# Altium footprint library Capacitors THD.PcbLib: 270 footprints (part 10 of 17)
Each footprint in its own frame and in the unit in brackets; x right, y up, seen from the top. Pads: shape width x height; smd on the part's side, far side on the other; paste and mask are expansions set on the pad; w line width, h text height; cw(c..) or ccw(c..) is an arc to the next point about the centre after c.
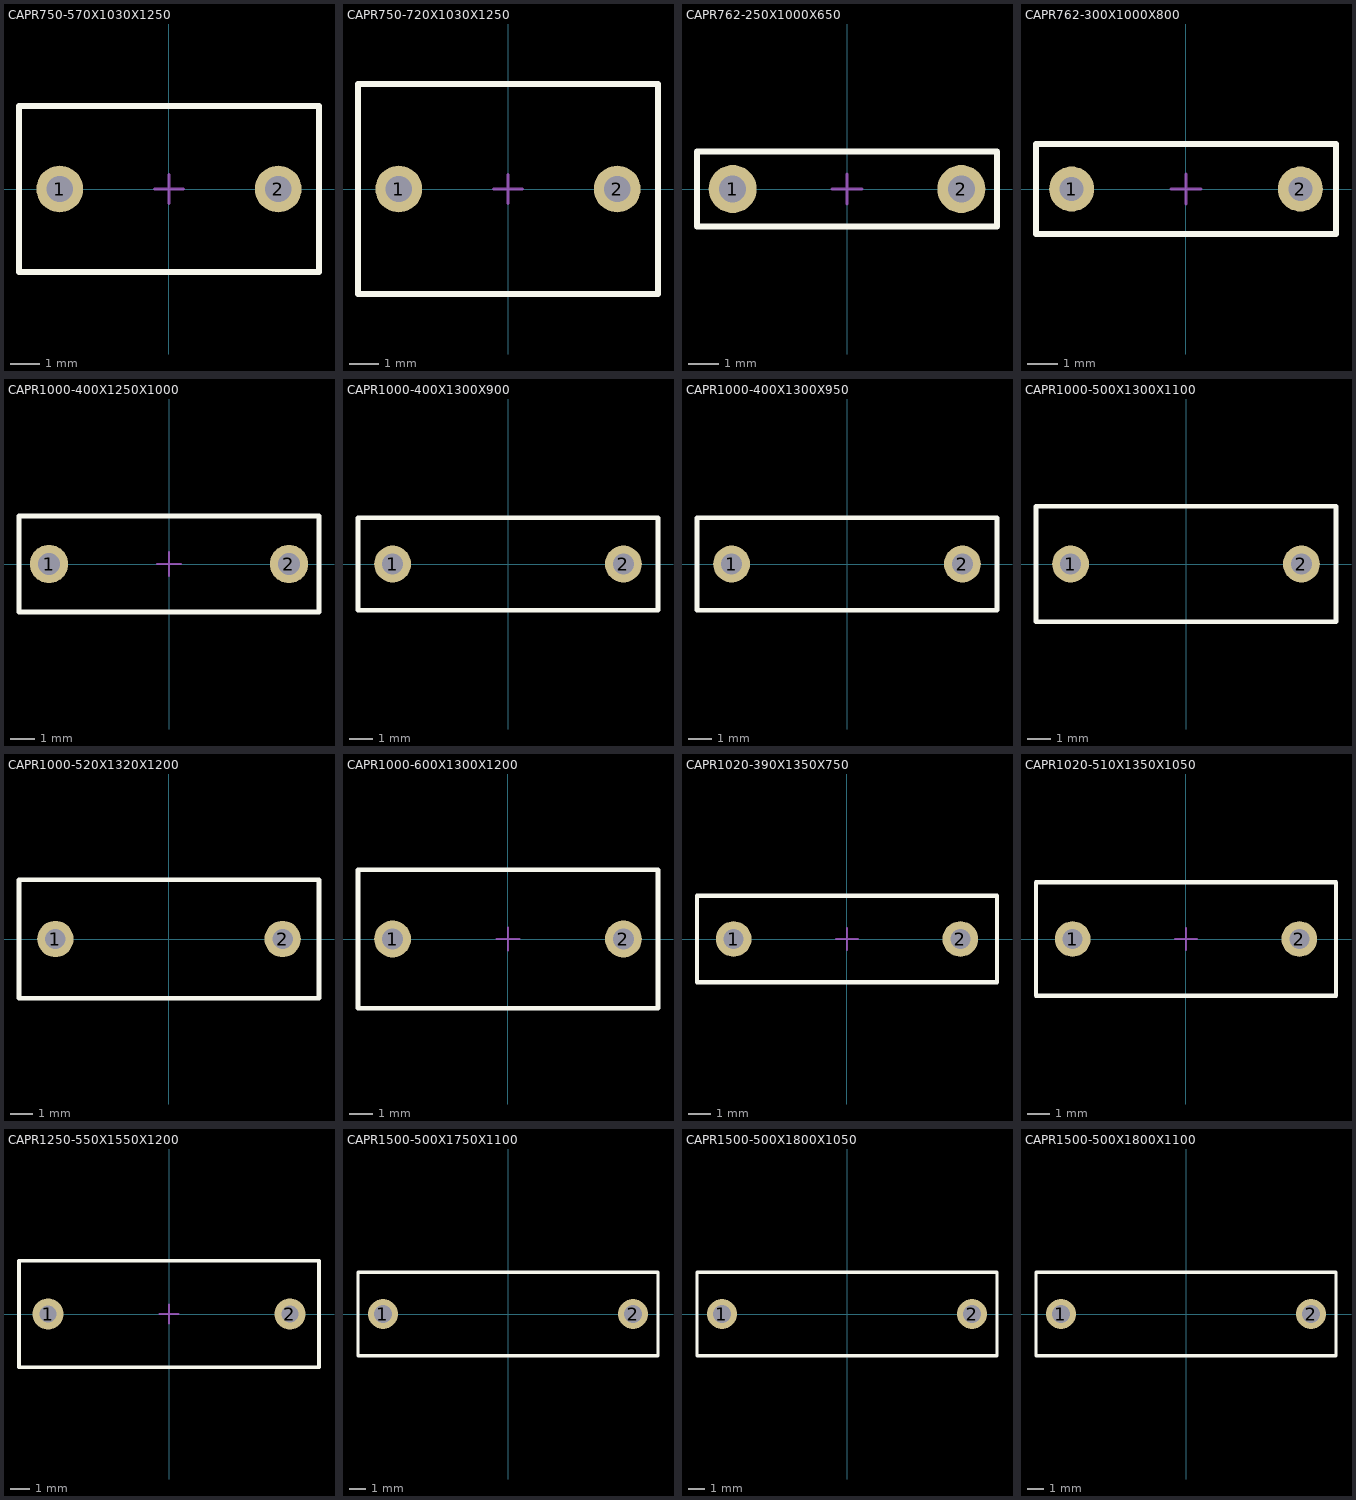
[diagram p9: the footprints below, top view; thin cyan lines are the x and y axes]

## CAPR750-570X1030X1250 [mm] "Capacitor Radial, Pin spacing 7.5mm - Body With 5.7mm X Body Length 10.3mm X Body Height 12.5mm"
height 12.5
pads (2):
  round 1.6 hole 0.9: 1(-3.75,0) 2(3.75,0)
Top Overlay:
  lines w0.2: -5.15,-2.85 5.15,-2.85 5.15,2.85 -5.15,2.85 -5.15,-2.85
Mechanical 8:
  lines w0.1: -4.25,0 -3.75,0 ; -3.75,-0.5 -3.75,0 ; -3.75,0.5 -3.75,0 ; -3.25,0 -3.75,0 ; -0.5,0 0,0 ; 0,-0.5 0,0 ; 0,0.5 0,0 ; 0.5,0 0,0 ; 3.25,0 3.75,0 ; 3.75,-0.5 3.75,0 ; 3.75,0.5 3.75,0 ; 4.25,0 3.75,0
Mechanical 14:
  lines w0.1: -5.15,-2.85 5.15,-2.85 5.15,2.85 -5.15,2.85 -5.15,-2.85
3D body "CAPR750-570X1030X1250.stp": height 12.5, standoff -3.8, extent -5.15,-2.85 5.15,2.85

## CAPR750-720X1030X1250 [mm] "Capacitor Radial, Pin spacing 7.5mm - Body With 7.2mm X Body Length 10.3mm X Body Height 12.5mm"
height 12.5
pads (2):
  round 1.6 hole 0.9: 1(-3.75,0) 2(3.75,0)
Top Overlay:
  lines w0.2: -5.15,-3.6 5.15,-3.6 5.15,3.6 -5.15,3.6 -5.15,-3.6
Mechanical 8:
  lines w0.1: -4.25,0 -3.75,0 ; -3.75,-0.5 -3.75,0 ; -3.75,0.5 -3.75,0 ; -3.25,0 -3.75,0 ; -0.5,0 0,0 ; 0,-0.5 0,0 ; 0,0.5 0,0 ; 0.5,0 0,0 ; 3.25,0 3.75,0 ; 3.75,-0.5 3.75,0 ; 3.75,0.5 3.75,0 ; 4.25,0 3.75,0
Mechanical 14:
  lines w0.1: -5.15,-3.6 5.15,-3.6 5.15,3.6 -5.15,3.6 -5.15,-3.6
3D body "CAPR750-720X1030X1250.stp": height 12.5, standoff -3.8, extent -5.15,-3.6 5.15,3.6

## CAPR762-250X1000X650 [mm] "Capacitor Radial, Pin spacing 7.62mm - Body With 2.5mm X Body Length 10mm X Body Height 6.5mm"
height 9
pads (2):
  round 1.6 hole 0.9: 1(-3.81,0) 2(3.81,0)
Top Overlay:
  lines w0.2: -5,-1.25 -5,1.25 5,1.25 5,-1.25 -5,-1.25
Mechanical 8:
  lines w0.1: -4.31,0 -3.81,0 ; -3.81,-0.5 -3.81,0 ; -3.81,0.5 -3.81,0 ; -3.31,0 -3.81,0 ; -0.5,0 0,0 ; 0,-0.5 0,0 ; 0,0.5 0,0 ; 0.5,0 0,0 ; 3.31,0 3.81,0 ; 3.81,-0.5 3.81,0 ; 3.81,0.5 3.81,0 ; 4.31,0 3.81,0
Mechanical 14:
  lines w0.1: -5,-1.25 -5,1.25 5,1.25 5,-1.25 -5,-1.25
3D body "CAPR762-250X1000X650.stp": height 6.5, standoff -3.8, extent -5,-1.25 5,1.25

## CAPR762-300X1000X800 [mm] "Capacitor Radial, Pin spacing 7.62mm - Body With 3mm X Body Length 10mm X Body Height 8mm"
height 9
pads (2):
  round 1.5 hole 0.8: 1(-3.81,0) 2(3.81,0)
Top Overlay:
  lines w0.2: -5,-1.5 -5,1.5 5,1.5 5,-1.5 -5,-1.5
Mechanical 8:
  lines w0.1: -4.31,0 -3.81,0 ; -3.81,-0.5 -3.81,0 ; -3.81,0.5 -3.81,0 ; -3.31,0 -3.81,0 ; -0.5,0 0,0 ; 0,-0.5 0,0 ; 0,0.5 0,0 ; 0.5,0 0,0 ; 3.31,0 3.81,0 ; 3.81,-0.5 3.81,0 ; 3.81,0.5 3.81,0 ; 4.31,0 3.81,0
Mechanical 14:
  lines w0.1: -5,-1.5 -5,1.5 5,1.5 5,-1.5 -5,-1.5
3D body "CAPR762-300X1000X800.stp": height 8, standoff -3.8, extent -5,-1.5 5,1.5

## CAPR1000-400X1250X1000 [mm] "Capacitor Radial, Pin spacing 10mm - Body With 4mm X Body Length 12.5mm X Body Height 10mm"
height 10
pads (2):
  round 1.6 hole 0.9: 1(-5,0) 2(5,0)
Top Overlay:
  lines w0.2: -6.25,-2 -6.25,2 6.25,2 6.25,-2 -6.25,-2
Mechanical 8:
  lines w0.1: -5.5,0 -5,0 ; -5,-0.5 -5,0 ; -5,0.5 -5,0 ; -4.5,0 -5,0 ; -0.5,0 0,0 ; 0,-0.5 0,0 ; 0,0.5 0,0 ; 0.5,0 0,0 ; 4.5,0 5,0 ; 5,-0.5 5,0 ; 5,0.5 5,0 ; 5.5,0 5,0
Mechanical 14:
  lines w0.1: -6.25,-2 -6.25,2 6.25,2 6.25,-2 -6.25,-2
3D body "CAPR1000-400X1250X1000.stp": height 10, standoff -3.8, extent -6.25,-2 6.25,2

## CAPR1000-400X1300X900 [mm] "Capacitor Radial, Pin spacing 10mm - Body With 4mm X Body Length 13mm X Body Height 9mm"
height 9
pads (2):
  round 1.6 hole 0.9: 1(-5,0) 2(5,0)
Top Overlay:
  lines w0.2: -6.5,-2 -6.5,2 6.5,2 6.5,-2 -6.5,-2
Mechanical 13:
  lines w0.1: -6.5,-2 6.5,-2 6.5,2 -6.5,2 -6.5,-2
Mechanical 14:
  lines w0.1: -6.5,-2 -6.5,2 6.5,2 6.5,-2 -6.5,-2
3D body "CAPR1000-400X1300X900.stp": height 9, standoff -3.8, extent -6.5,-2 6.5,2

## CAPR1000-400X1300X950 [mm] "Capacitor Radial, Pin spacing 10mm - Body With 4mm X Body Length 13mm X Body Height 9.5mm"
height 9.5
pads (2):
  round 1.6 hole 0.9: 1(-5,0) 2(5,0)
Top Overlay:
  lines w0.2: -6.5,-2 -6.5,2 6.5,2 6.5,-2 -6.5,-2
Mechanical 13:
  lines w0.1: -6.5,-2 6.5,-2 6.5,2 -6.5,2 -6.5,-2
Mechanical 14:
  lines w0.1: -6.5,-2 -6.5,2 6.5,2 6.5,-2 -6.5,-2
3D body "CAPR1000-400X1300X950.stp": height 9.5, standoff -3.8, extent -6.5,-2 6.5,2

## CAPR1000-500X1300X1100 [mm] "Capacitor Radial, Pin spacing 10mm - Body With 5mm X Body Length 13mm X Body Height 11mm"
height 11
pads (2):
  round 1.6 hole 0.9: 1(-5,0) 2(5,0)
Top Overlay:
  lines w0.2: -6.5,-2.5 6.5,-2.5 6.5,2.5 -6.5,2.5 -6.5,-2.5
Mechanical 13:
  lines w0.1: -6.5,-2.5 -6.5,2.5 6.5,2.5 6.5,-2.5 -6.5,-2.5
Mechanical 14:
  lines w0.1: -6.5,-2.5 6.5,-2.5 6.5,2.5 -6.5,2.5 -6.5,-2.5
3D body "CAPR1000-500X1300X1100.stp": height 11, standoff -3.8, extent -6.5,-2.499 6.5,2.501

## CAPR1000-520X1320X1200 [mm] "Capacitor Radial, Pin spacing 10mm - Body With 5mm X Body Length 13mm X Body Height 11mm"
height 12
pads (2):
  round 1.6 hole 0.9: 1(-5,0) 2(5,0)
Top Overlay:
  lines w0.2: -6.6,-2.6 -6.6,2.6 6.6,2.6 6.6,-2.6 -6.6,-2.6
3D body "CAPR1000-520X1320X1200.stp": height 12, standoff -3.8, extent -6.6,-2.6 6.6,2.6

## CAPR1000-600X1300X1200 [mm] "Capacitor Radial, Pin spacing 10mm - Body With 6mm X Body Length 13mm X Body Height 12mm"
height 12
pads (2):
  round 1.6 hole 0.9: 1(-5,0) 2(5,0)
Top Overlay:
  lines w0.2: -6.5,-3 6.5,-3 6.5,3 -6.5,3 -6.5,-3
Mechanical 8:
  lines w0.1: -5.5,0 -5,0 ; -5,-0.5 -5,0 ; -5,0.5 -5,0 ; -4.5,0 -5,0 ; -0.5,0 0,0 ; 0,-0.5 0,0 ; 0,0.5 0,0 ; 0.5,0 0,0 ; 4.5,0 5,0 ; 5,-0.5 5,0 ; 5,0.5 5,0 ; 5.5,0 5,0
Mechanical 14:
  lines w0.1: -6.5,-3 6.5,-3 6.5,3 -6.5,3 -6.5,-3
3D body "CAPR1000-600X1300X1200.stp": height 12, standoff -3.8, extent -6.5,-3 6.5,3

## CAPR1020-390X1350X750 [mm] "Capacitor Radial, Pin spacing 10.2mm - Body With 3.9mm X Body Length 13.5mm X Body Height 7.5mm"
height 7.5
pads (2):
  round 1.6 hole 0.9: 1(-5.1,0) 2(5.1,0)
Top Overlay:
  lines w0.2: -6.75,-1.95 6.75,-1.95 6.75,1.95 -6.75,1.95 -6.75,-1.95
Mechanical 8:
  lines w0.1: -5.6,0 -5.1,0 ; -5.1,-0.5 -5.1,0 ; -5.1,0.5 -5.1,0 ; -4.6,0 -5.1,0 ; -0.5,0 0,0 ; 0,-0.5 0,0 ; 0,0.5 0,0 ; 0.5,0 0,0 ; 4.6,0 5.1,0 ; 5.1,-0.5 5.1,0 ; 5.1,0.5 5.1,0 ; 5.6,0 5.1,0
Mechanical 14:
  lines w0.1: -6.75,-1.95 6.75,-1.95 6.75,1.95 -6.75,1.95 -6.75,-1.95
3D body "CAPR1020-390X1350X750.stp": height 7.5, standoff -3.8, extent -6.75,-1.95 6.75,1.95

## CAPR1020-510X1350X1050 [mm] "Capacitor Radial, Pin spacing 10.2mm - Body With 5.1mm X Body Length 13.5mm X Body Height 10.5mm"
height 10.5
pads (2):
  round 1.6 hole 0.9: 1(-5.1,0) 2(5.1,0)
Top Overlay:
  lines w0.2: -6.75,-2.55 -6.75,2.55 6.75,2.55 6.75,-2.55 -6.75,-2.55
Mechanical 8:
  lines w0.1: -5.6,0 -5.1,0 ; -5.1,-0.5 -5.1,0 ; -5.1,0.5 -5.1,0 ; -4.6,0 -5.1,0 ; -0.5,0 0,0 ; 0,-0.5 0,0 ; 0,0.5 0,0 ; 0.5,0 0,0 ; 4.6,0 5.1,0 ; 5.1,-0.5 5.1,0 ; 5.1,0.5 5.1,0 ; 5.6,0 5.1,0
Mechanical 14:
  lines w0.1: -6.75,-2.55 -6.75,2.55 6.75,2.55 6.75,-2.55 -6.75,-2.55
3D body "CAPR1020-510X1350X1050.stp": height 10.5, standoff -3.8, extent -6.75,-2.55 6.75,2.55

## CAPR1250-550X1550X1200 [mm] "Capacitor Radial, Pin spacing 12.5mm - Body With 5mm X Body Length 15mm X Body Height 11.5mm"
height 12
pads (2):
  round 1.6 hole 0.9: 1(-6.25,0) 2(6.25,0)
Top Overlay:
  lines w0.2: -7.75,-2.75 7.75,-2.75 7.75,2.75 -7.75,2.75 -7.75,-2.75
Mechanical 8:
  lines w0.1: -6.75,0 -6.25,0 ; -6.25,-0.5 -6.25,0 ; -6.25,0.5 -6.25,0 ; -5.75,0 -6.25,0 ; -0.5,0 0,0 ; 0,-0.5 0,0 ; 0,0.5 0,0 ; 0.5,0 0,0 ; 5.75,0 6.25,0 ; 6.25,-0.5 6.25,0 ; 6.25,0.5 6.25,0 ; 6.75,0 6.25,0
Mechanical 14:
  lines w0.1: -7.75,-2.75 7.75,-2.75 7.75,2.75 -7.75,2.75 -7.75,-2.75
3D body "CAPR1250-550X1550X1200.stp": height 12, standoff -3.6, extent -7.75,-2.75 7.75,2.75

## CAPR1500-500X1750X1100 [mm] "Capacitor Radial, Pin spacing 15.0mm - Body Width 5mm X Body Length 17.5mm X Body Height 11mm"
height 11
pads (2):
  round 1.8 hole 1.1: 1(-7.5,0) 2(7.5,0)
Top Overlay:
  lines w0.2: -9,-2.5 -9,2.5 9,2.5 9,-2.5 -9,-2.5
Mechanical 13:
  lines w0.1: -9,-2.5 9,-2.5 9,2.5 -9,2.5 -9,-2.5
Mechanical 14:
  lines w0.1: -9,-2.5 -9,2.5 9,2.5 9,-2.5 -9,-2.5
3D body "CAPR1500-500X1750X1100.stp": height 11, standoff -3.2, extent -8.749,-2.5 8.751,2.5

## CAPR1500-500X1800X1050 [mm] "Capacitor Radial, Pin spacing 15.0mm - Body With 5mm X Body Length 18mm X Body Height 10.5mm"
height 10.5
pads (2):
  round 1.8 hole 1.1: 1(-7.5,0) 2(7.5,0)
Top Overlay:
  lines w0.2: -9,-2.5 -9,2.5 9,2.5 9,-2.5 -9,-2.5
Mechanical 13:
  lines w0.1: -9,-2.5 9,-2.5 9,2.5 -9,2.5 -9,-2.5
Mechanical 14:
  lines w0.1: -9,-2.5 -9,2.5 9,2.5 9,-2.5 -9,-2.5
3D body "CAPR1500-500X1800X1050.stp": height 10.5, standoff -3.8, extent -8.999,-2.499 9.001,2.501

## CAPR1500-500X1800X1100 [mm] "Capacitor Radial, Pin spacing 15.0mm - Body Width 5mm X Body Length 18mm X Body Height 11mm"
height 11
pads (2):
  round 1.8 hole 1.1: 1(-7.5,0) 2(7.5,0)
Top Overlay:
  lines w0.2: -9,-2.5 -9,2.5 9,2.5 9,-2.5 -9,-2.5
Mechanical 13:
  lines w0.1: -9,-2.5 9,-2.5 9,2.5 -9,2.5 -9,-2.5
Mechanical 14:
  lines w0.1: -9,-2.5 -9,2.5 9,2.5 9,-2.5 -9,-2.5
3D body "CAPR1500-500X1800X1100.stp": height 11, standoff -3.8, extent -8.999,-2.5 9.001,2.5